# EAGLE library part DRV8601DRBR (library DRV8601DRBR)
None
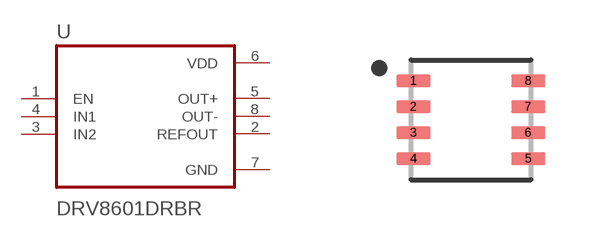
[diagram p0: symbol with the pads of SON65P300X300X100-8N; footprint SON65P300X300X100-8N]

Designator prefix U

## DRV8601DRBR (Availability: Unavailable; Description: 400 mA Fully Differential Motor Driver with 1.8-V Input Logic Thresholds 8-SON -40 to 85; MF: Texas Instruments; MP: DRV8601DRBR; Package: SON-8 Texas Instruments; Price: None)  [SON65P300X300X100-8N]
1  EN  in
2  REFOUT  out
3  IN2  in
4  IN1  in
5  OUT+  out
6  VDD  pwr
7  GND  pwr
8  OUT-  out

## Footprint SON65P300X300X100-8N (pad centres in mm)
smd 0.86 x 0.32: 1 -1.435,0.975; 2 -1.435,0.325; 3 -1.435,-0.325; 4 -1.435,-0.975; 5 1.435,-0.975; 6 1.435,-0.325; 7 1.435,0.325; 8 1.435,0.975